# EAGLE library part NTA53321G0FHKZ (library NTA53321G0FHKZ)
Interface - Specialized NTAG Source: Datasheet <https://www.mouser.co.il/datasheet/2/302/NTA5332-1815294.pdf>
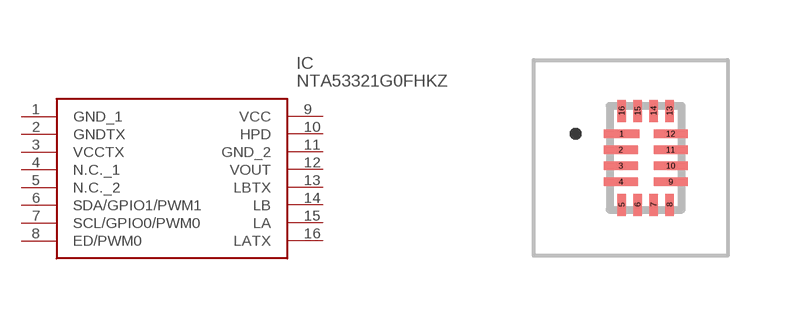
[diagram p0: symbol with the pads of NTA53321G0FHKZ; footprint NTA53321G0FHKZ]

Designator prefix IC

## NTA53321G0FHKZ (Arrow_Part_Number: NTA53321G0FHKZ; Arrow_Price-Stock: https://www.arrow.com/en/products/nta53321g0fhkz/nxp-semiconductors?region=nac; Description: Interface - Specialized NTAG; Height: 0.5mm; Manufacturer_Name: NXP; Manufacturer_Part_Number: NTA53321G0FHKZ; Mouser_Part_Number: 771-NTA53321G0FHKZ; Mouser_Price-Stock: https://www.mouser.co.uk/ProductDetail/NXP-Semiconductors/NTA53321G0FHKZ?qs=OlC7AqGiEDk3OpnM8pXHAA%3D%3D)  [NTA53321G0FHKZ]
1  GND_1
2  GNDTX
3  VCCTX
4  N.C._1
5  N.C._2
6  SDA/GPIO1/PWM1
7  SCL/GPIO0/PWM0
8  ED/PWM0
9  VCC
10  HPD
11  GND_2
12  VOUT
13  LBTX
14  LB
15  LA
16  LATX

## Footprint NTA53321G0FHKZ (pad centres in mm)
NTA53321G0FHKZ-4
smd 0.9 x 0.22: 1 -0.6,0.6
smd 0.85 x 0.22: 2 -0.625,0.2; 3 -0.625,-0.2; 4 -0.625,-0.6; 9 0.625,-0.6; 10 0.625,-0.2; 11 0.625,0.2; 12 0.625,0.6
smd 0.22 x 0.55: 5 -0.6,-1.175; 6 -0.2,-1.175; 7 0.2,-1.175; 8 0.6,-1.175; 13 0.6,1.175; 14 0.2,1.175; 15 -0.2,1.175; 16 -0.6,1.175